# EAGLE library part LM2903VDR2G (library on-semiconductor-01)
Low Offset Voltage Dual Comparators
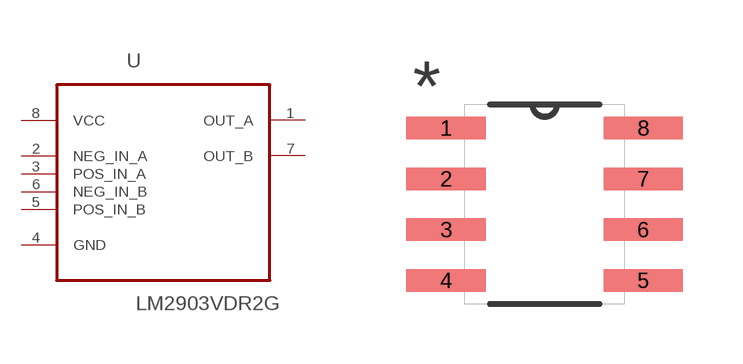
[diagram p42: symbol with the pads of SOIC127P600X175-8N; footprint SOIC127P600X175-8N]

Designator prefix U

## LM2903VDR2G (MPN: LM2903VDR2G; OC_FARNELL: -; OC_NEWARK: 04R7815; PACKAGE: SOIC-8; SUPPLIER: Onsemiconductor)  [SOIC127P600X175-8N]
1  OUT_A  out
2  NEG_IN_A  in
3  POS_IN_A  in
4  GND  pas
5  POS_IN_B  in
6  NEG_IN_B  in
7  OUT_B  out
8  VCC  pwr

## Footprint SOIC127P600X175-8N (pad centres in mm)
smd 1.981 x 0.559: 1 -2.464,1.905; 2 -2.464,0.635; 3 -2.464,-0.635; 4 -2.464,-1.905; 5 2.464,-1.905; 6 2.464,-0.635; 7 2.464,0.635; 8 2.464,1.905